# EAGLE library part ADXRS450SOIC (library OSSI)
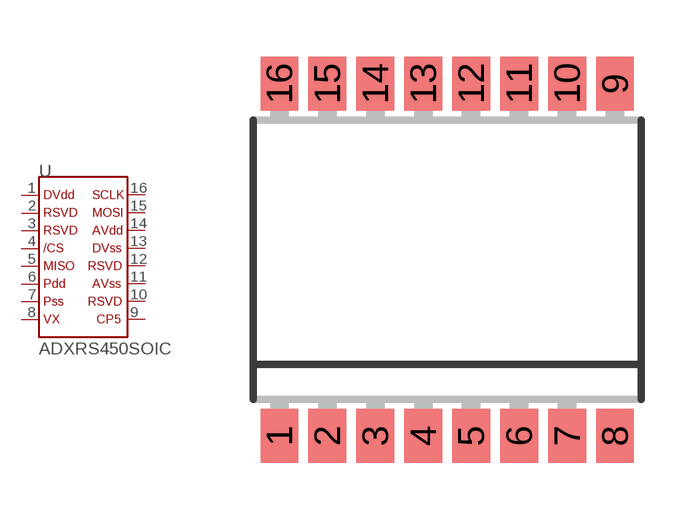
[diagram p33: symbol with the pads of SOIC-16CAV; footprint SOIC-16CAV]

Designator prefix U

## ADXRS450SOIC  [SOIC-16CAV]
1  P$1  pwr
2  P$2  pwr
3  P$3  pwr
4  P$4  in
5  P$5
6  P$6  pwr
7  P$7  pwr
8  P$8  pwr
9  P$9  pwr
10  P$10  pwr
11  P$11  pwr
12  P$12  pwr
13  P$13  pwr
14  P$14  pwr
15  P$15
16  P$16

## Footprint SOIC-16CAV (pad centres in mm)
smd 1 x 1.43: 1 -4.445,-4.67; 2 -3.175,-4.67; 3 -1.905,-4.67; 4 -0.635,-4.67; 5 0.635,-4.67; 6 1.905,-4.67; 7 3.175,-4.67; 8 4.445,-4.67; 9 4.445,4.67; 10 3.175,4.67; 11 1.905,4.67; 12 0.635,4.67; 13 -0.635,4.67; 14 -1.905,4.67; 15 -3.175,4.67; 16 -4.445,4.67